# Altium footprint library D_SOD-323_P.PcbLib: 1 footprints
Each footprint in its own frame and in the unit in brackets; x right, y up, seen from the top. Pads: shape width x height; smd on the part's side, far side on the other; paste and mask are expansions set on the pad; w line width, h text height; cw(c..) or ccw(c..) is an arc to the next point about the centre after c.
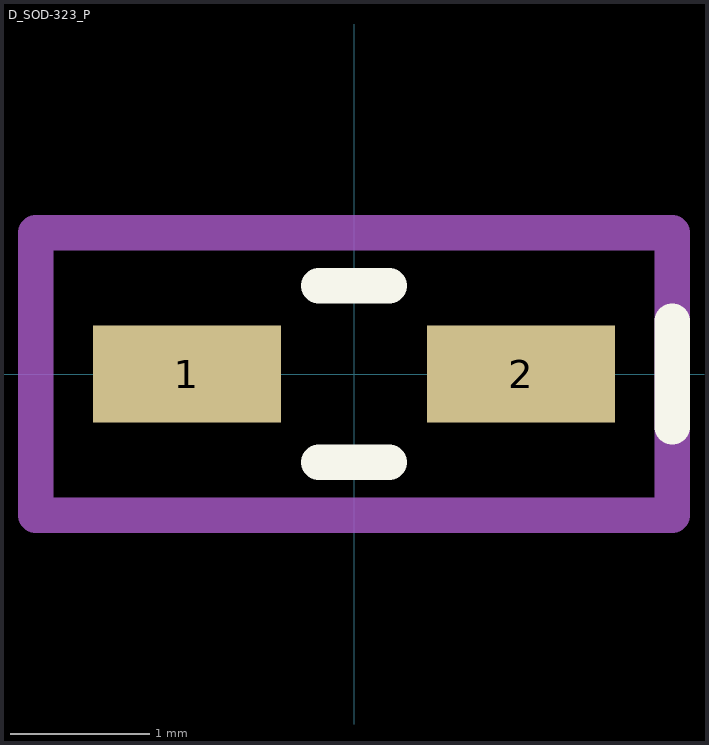
[diagram p0: the footprint, top view; thin cyan lines are the x and y axes]

## D_SOD-323_P [mm] "SOD-123 Diode - Polarized"
height 1.35
pads (2):
  rect 1.35x0.7 smd: 1(-1.2,0) 2(1.2,0)
Top Overlay:
  lines w0.254: -0.254,-0.635 0.254,-0.635 ; -0.254,0.635 0.254,0.635 ; 2.286,-0.381 2.286,0.381
Mechanical 15:
  lines w0.254: -2.286,-1.016 -2.286,1.016 2.286,1.016 2.286,-1.016 -0.084,-1.016 -2.286,-1.016
3D body "SOD-323.step": height 1.1, standoff 0, extent -1.3,-0.675 1.3,0.675